# Altium schematic symbol library RF_Switch.SchLib: 30 symbols
Pins are listed as number, name and electrical type; pins without a type are passive.

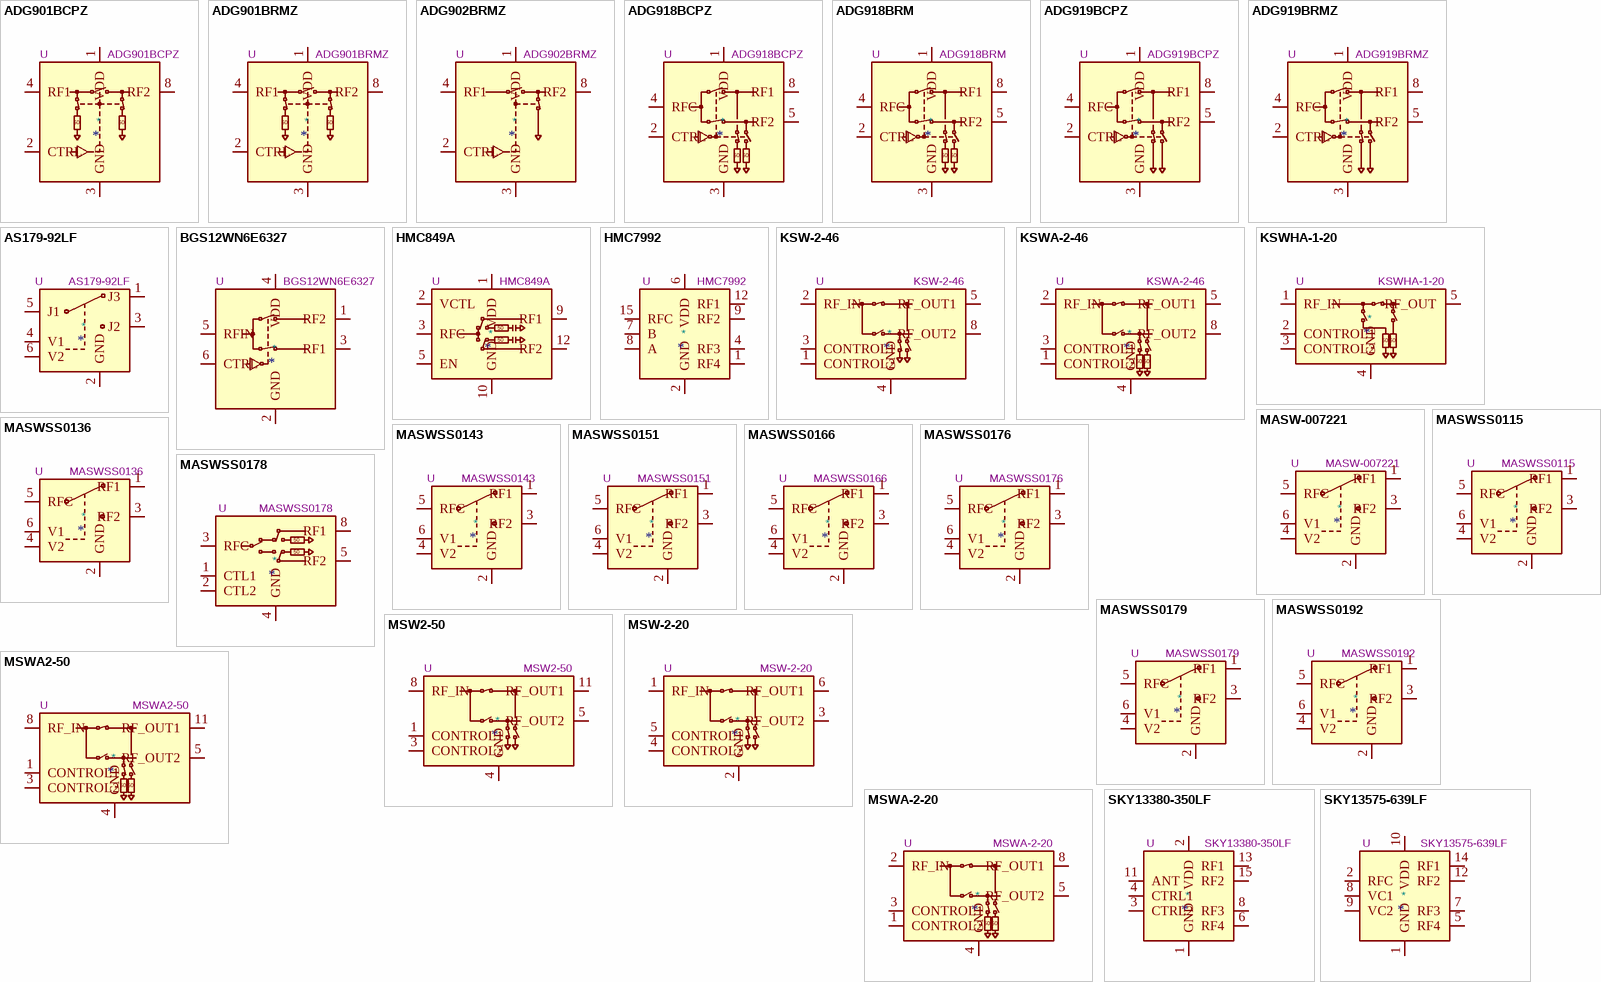
[diagram p0: symbols ADG901BCPZ to SKY13575-639LF]

## ADG901BCPZ
designator *  value ADG901BCPZ  Reference: U
ki_keywords: RF SPST switch CMOS LVTTL; ki_description: SPST DC-4.5GHz absorbative switch, 40dB isolation at 1GHz, LFCSP-8; ki_fp_filters: LFCSP*1EP*3x3mm*P0.5mm*; Footprint: Package_CSP:LFCSP-8-1EP_3x3mm_P0.5mm_EP1.45x1.74mm; Datasheet: https://www.analog.com/media/en/technical-documentation/data-sheets/ADG901_902.pdf
pins: 1 VDD, 2 CTRL, 3 GND, 4 RF1, 5 GND hidden, 6 GND hidden, 7 GND hidden, 8 RF2, 9 GND hidden
text: 50

## ADG901BRMZ
designator *  value ADG901BRMZ  Reference: U
ki_keywords: RF SPST switch CMOS LVTTL; ki_description: SPST DC-4.5GHz absorbative switch, 40dB isolation at 1GHz, MSOP-8; ki_fp_filters: MSOP*3x3mm*P0.65mm*; Footprint: Package_SO:MSOP-8_3x3mm_P0.65mm; Datasheet: https://www.analog.com/media/en/technical-documentation/data-sheets/ADG901_902.pdf
pins: 1 VDD, 2 CTRL, 3 GND, 4 RF1, 5 GND hidden, 6 GND hidden, 7 GND hidden, 8 RF2
text: 50

## ADG902BRMZ
designator *  value ADG902BRMZ  Reference: U
ki_keywords: RF SPST switch CMOS LVTTL; ki_description: SPST DC-4.5GHz reflective switch, 40dB isolation at 1GHz, MSOP-8; ki_fp_filters: MSOP*3x3mm*P0.65mm*; Footprint: Package_SO:MSOP-8_3x3mm_P0.65mm; Datasheet: https://www.analog.com/media/en/technical-documentation/data-sheets/ADG901_902.pdf
pins: 1 VDD, 2 CTRL, 3 GND, 4 RF1, 5 GND hidden, 6 GND hidden, 7 GND hidden, 8 RF2

## ADG918BCPZ
designator *  value ADG918BCPZ  Reference: U
ki_keywords: RF Mux SPDT switch CMOS LVTTL; ki_description: SPDT DC-4GHz absorbative switch, 43dB isolation at 1GHz, LFCSP-8; ki_fp_filters: LFCSP*1EP*3x3mm*P0.5mm*; Footprint: Package_CSP:LFCSP-8-1EP_3x3mm_P0.5mm_EP1.45x1.74mm; Datasheet: https://www.analog.com/media/en/technical-documentation/data-sheets/ADG918_919.pdf
pins: 1 VDD, 2 CTRL, 3 GND, 4 RFC, 5 RF2, 6 GND hidden, 7 GND hidden, 8 RF1, 9 GND hidden
text: 50

## ADG918BRM
designator *  value ADG918BRM  Reference: U
ki_keywords: RF Mux SPDT switch CMOS LVTTL; ki_description: SPDT DC-4GHz absorbative switch, 43dB isolation at 1GHz, MSOP-8; ki_fp_filters: MSOP*3x3mm*P0.65mm*; Footprint: Package_SO:MSOP-8_3x3mm_P0.65mm; Datasheet: https://www.analog.com/media/en/technical-documentation/data-sheets/ADG918_919.pdf
pins: 1 VDD, 2 CTRL, 3 GND, 4 RFC, 5 RF2, 6 GND hidden, 7 GND hidden, 8 RF1
text: 50

## ADG919BCPZ
designator *  value ADG919BCPZ  Reference: U
ki_keywords: RF Mux SPDT switch CMOS LVTTL; ki_description: SPDT DC-4GHz reflective switch, 43dB isolation at 1GHz, LFCSP-8; ki_fp_filters: LFCSP*1EP*3x3mm*P0.5mm*; Footprint: Package_CSP:LFCSP-8-1EP_3x3mm_P0.5mm_EP1.45x1.74mm; Datasheet: https://www.analog.com/media/en/technical-documentation/data-sheets/ADG918_919.pdf
pins: 1 VDD, 2 CTRL, 3 GND, 4 RFC, 5 RF2, 6 GND hidden, 7 GND hidden, 8 RF1, 9 GND hidden

## ADG919BRMZ
designator *  value ADG919BRMZ  Reference: U
ki_keywords: RF Mux SPDT switch CMOS LVTTL; ki_description: SPDT DC-4GHz reflective switch, 43dB isolation at 1GHz, MSOP-8; ki_fp_filters: MSOP*3x3mm*P0.65mm*; Footprint: Package_SO:MSOP-8_3x3mm_P0.65mm; Datasheet: https://www.analog.com/media/en/technical-documentation/data-sheets/ADG918_919.pdf
pins: 1 VDD, 2 CTRL, 3 GND, 4 RFC, 5 RF2, 6 GND hidden, 7 GND hidden, 8 RF1

## AS179-92LF
designator *  value AS179-92LF  Reference: U
ki_keywords: rf spdt switch; ki_description: 20 MHz to 4.0 GHz GaAs SPDT Switch, SC-70; ki_fp_filters: SOT*363*; Footprint: Package_TO_SOT_SMD:SOT-363_SC-70-6; Datasheet: http://www.skyworksinc.com/uploads/documents/AS179_92LF_200176H.pdf
pins: 1 J3, 2 GND, 3 J2, 4 V1, 5 J1, 6 V2

## BGS12WN6E6327
designator *  value BGS12WN6E6327  Reference: U
ki_keywords: RF Mux SPDT switch CMOS; ki_description: SPDT DC-9GHz switch, 45dB isolation at 960MHz, PG-TSNP-6-10; ki_fp_filters: *PG?TSNP*0.7x1.1mm*P0.4mm*; Footprint: Package_LGA:Infineon_PG-TSNP-6-10_0.7x1.1mm_0.7x1.1mm_P0.4mm; Datasheet: https://www.infineon.com/dgdl/Infineon-BGS12WN6-DataSheet-v02_05-EN.pdf?fileId=5546d4626b2d8e69016b89d2b3334727
pins: 1 RF2, 2 GND, 3 RF1, 4 VDD, 5 RFIN, 6 CTRL

## HMC849A
designator *  value HMC849A  Reference: U
ki_keywords: RF SPDT switch; ki_description: High Isolation SPDT Non-Reflective Switch, DC-6GHz, Matched to 50 Ohm, LFCSP-16; ki_fp_filters: LFCSP*1EP*4x4mm*P0.65mm*; Footprint: Package_CSP:LFCSP-16-1EP_4x4mm_P0.65mm_EP2.4x2.4mm; Datasheet: https://www.analog.com/media/en/technical-documentation/data-sheets/hmc849a.pdf
pins: 1 VDD, 2 VCTL, 3 RFC, 4 GND hidden, 5 EN, 6 GND hidden, 7 GND hidden, 8 GND hidden, 9 RF1, 10 GND, 11 GND hidden, 12 RF2, 13 GND hidden, 14 GND hidden, 15 GND hidden, 16 GND hidden, 17 GND hidden
text: 50

## HMC7992
designator *  value HMC7992  Reference: U
ki_keywords: rf switch sp4t absorptive; ki_description: SP4T 100MHz-6GHz absorptive switch, 50 Ohm, LFCSP-16; ki_fp_filters: LFCSP*1EP*3x3mm*P0.5mm*; Footprint: Package_CSP:LFCSP-16-1EP_3x3mm_P0.5mm_EP1.7x1.7mm; Datasheet: https://www.analog.com/media/en/technical-documentation/data-sheets/HMC7992.pdf
pins: 1 RF4, 2 GND, 3 GND hidden, 4 RF3, 5 GND hidden, 6 VDD, 7 B, 8 A, 9 RF2, 10 GND hidden, 11 GND hidden, 12 RF1, 13 GND hidden, 14 GND hidden, 15 RFC, 16 GND hidden, 17 GND hidden

## KSW-2-46
designator *  value KSW-2-46  Reference: U
ki_keywords: RF SPDT switch; ki_description: SPDT DC-4.6GHz reflective switch, 50 Ohm, XX112; ki_fp_filters: Mini?Circuits*XX112* SOP*1EP*4.57x4.57mm*P1.27mm*; Datasheet: https://www.minicircuits.com/pdfs/KSW-2-46+.pdf
pins: 1 CONTROL2, 2 RF_IN, 3 CONTROL1, 4 GND, 5 RF_OUT1, 6 GND hidden, 7 GND hidden, 8 RF_OUT2

## KSWA-2-46
designator *  value KSWA-2-46  Reference: U
ki_keywords: RF SPDT switch; ki_description: SPDT DC-4.6GHz absorbative switch, 50 Ohm, XX112; ki_fp_filters: Mini?Circuits*XX112* SOP*1EP*4.57x4.57mm*P1.27mm*; Datasheet: https://www.minicircuits.com/pdfs/KSWA-2-46+.pdf
pins: 1 CONTROL2, 2 RF_IN, 3 CONTROL1, 4 GND, 5 RF_OUT1, 6 GND hidden, 7 GND hidden, 8 RF_OUT2
text: 50

## KSWHA-1-20
designator *  value KSWHA-1-20  Reference: U
ki_keywords: RF SPST switch; ki_description: SPST DC-2.0GHz absorbative switch, 50 Ohm, XX112; ki_fp_filters: Mini?Circuits*XX112* SOP*1EP*4.57x4.57mm*P1.27mm*; Datasheet: https://www.minicircuits.com/pdfs/KSWHA-1-20+.pdf
pins: 1 RF_IN, 2 CONTROL1, 3 CONTROL2, 4 GND, 5 RF_OUT, 6 GND hidden, 7 GND hidden, 8 GND hidden
text: 50

## MASW-007221
designator *  value MASW-007221  Reference: U
ki_keywords: RF SWITCH SPDT; ki_description: Macom GaAs RF SPDT switch, DC-3GHz, 0.56/12dB loss/isolation, SOT-363; ki_fp_filters: SOT*363*; Footprint: Package_TO_SOT_SMD:SOT-363_SC-70-6; Datasheet: http://cdn.macom.com/datasheets/masw-007221.pdf
pins: 1 RF1, 2 GND, 3 RF2, 4 V2, 5 RFC, 6 V1

## MASWSS0115
designator *  value MASWSS0115  Reference: U
ki_keywords: RF SWITCH SPDT; ki_description: Macom GaAs RF SPDT switch, DC-3GHz, 0.3/22dB loss/isolation, SOT-363; ki_fp_filters: SOT*363*; Footprint: Package_TO_SOT_SMD:SOT-363_SC-70-6; Datasheet: http://cdn.macom.com/datasheets/maswss0115.pdf
pins: 1 RF1, 2 GND, 3 RF2, 4 V2, 5 RFC, 6 V1

## MASWSS0136
designator *  value MASWSS0136  Reference: U
ki_keywords: RF SWITCH SPDT; ki_description: Macom GaAs RF SPDT switch, DC-3GHz, 0.4/27dB loss/isolation, SOT-363; ki_fp_filters: SOT*363*; Footprint: Package_TO_SOT_SMD:SOT-363_SC-70-6; Datasheet: https://cdn.macom.com/datasheets/MASWSS0136.pdf
pins: 1 RF1, 2 GND, 3 RF2, 4 V2, 5 RFC, 6 V1

## MASWSS0143
designator *  value MASWSS0143  Reference: U
ki_keywords: RF SWITCH SPDT; ki_description: Macom GaAs RF SPDT switch, DC-3GHz, 0.4/16dB loss/isolation, IP 58dB@1GHz, SOT-363; ki_fp_filters: SOT*363*; Footprint: Package_TO_SOT_SMD:SOT-363_SC-70-6; Datasheet: https://cdn.macom.com/datasheets/MASWSS0143.pdf
pins: 1 RF1, 2 GND, 3 RF2, 4 V2, 5 RFC, 6 V1

## MASWSS0151
designator *  value MASWSS0151  Reference: U
ki_keywords: RF SWITCH SPDT; ki_description: Macom GaAs RF SPDT switch, DC-3GHz, 0.65/21dB loss/isolation, SOT-363; ki_fp_filters: SOT*363*; Footprint: Package_TO_SOT_SMD:SOT-363_SC-70-6; Datasheet: https://cdn.macom.com/datasheets/MASWSS0151.pdf
pins: 1 RF1, 2 GND, 3 RF2, 4 V2, 5 RFC, 6 V1

## MASWSS0166
designator *  value MASWSS0166  Reference: U
ki_keywords: RF SWITCH SPDT; ki_description: Macom GaAs RF SPDT switch, DC-3GHz, 0.3/12dB loss/isolation, SOT-363; ki_fp_filters: SOT*363*; Footprint: Package_TO_SOT_SMD:SOT-363_SC-70-6; Datasheet: https://cdn.macom.com/datasheets/MASWSS0166.pdf
pins: 1 RF1, 2 GND, 3 RF2, 4 V2, 5 RFC, 6 V1

## MASWSS0176
designator *  value MASWSS0176  Reference: U
ki_keywords: RF SWITCH SPDT; ki_description: Macom GaAs RF SPDT switch, DC-3GHz, 0.35/21dB loss/isolation, SOT-363; ki_fp_filters: SOT*363*; Footprint: Package_TO_SOT_SMD:SOT-363_SC-70-6; Datasheet: https://cdn.macom.com/datasheets/MASWSS0176.pdf
pins: 1 RF1, 2 GND, 3 RF2, 4 V2, 5 RFC, 6 V1

## MASWSS0178
designator *  value MASWSS0178  Reference: U
ki_keywords: RF switch SPDT; ki_description: SPDT High Isolation Terminated Switch, 0.01-3.0 GHz, MSOP-8; ki_fp_filters: MSOP*3x3mm*P0.65mm*; Footprint: Package_SO:MSOP-8-1EP_3x3mm_P0.65mm_EP1.73x1.85mm_ThermalVias; Datasheet: https://cdn.macom.com/datasheets/MASWSS0178.pdf
pins: 1 CTL1, 2 CTL2, 3 RFC, 4 GND, 5 RF2, 6 GND hidden, 7 GND hidden, 8 RF1, 9 GND hidden
text: 50

## MASWSS0179
designator *  value MASWSS0179  Reference: U
ki_keywords: RF SWITCH SPDT; ki_description: Macom GaAs RF SPDT switch, DC-2GHz, 0.6/22dB loss/isolation, SOT-26 (SOT-23-6); ki_fp_filters: SOT?23*; Footprint: Package_TO_SOT_SMD:SOT-23-6; Datasheet: https://cdn.macom.com/datasheets/MASWSS0179.pdf
pins: 1 RF1, 2 GND, 3 RF2, 4 V2, 5 RFC, 6 V1

## MASWSS0192
designator *  value MASWSS0192  Reference: U
ki_keywords: RF SWITCH SPDT; ki_description: Macom GaAs RF SPDT switch, DC-3GHz, 0.33/13.5dB loss/isolation, SOT-363; ki_fp_filters: SOT*363*; Footprint: Package_TO_SOT_SMD:SOT-363_SC-70-6; Datasheet: https://cdn.macom.com/datasheets/MASWSS0192.pdf
pins: 1 RF1, 2 GND, 3 RF2, 4 V2, 5 RFC, 6 V1

## MSW2-50
designator *  value MSW2-50  Reference: U
ki_keywords: RF SPDT switch; ki_description: SPDT DC-5.0GHz reflective switch, 50 Ohm, QFN-12; ki_fp_filters: QFN*1EP*3x3mm*P0.51mm*; Footprint: Package_DFN_QFN:QFN-12-1EP_3x3mm_P0.51mm_EP1.45x1.45mm; Datasheet: https://www.minicircuits.com/pdfs/MSW2-50+.pdf
pins: 1 CONTROL1, 2 NC hidden, 3 CONTROL2, 4 GND, 5 RF_OUT2, 6 GND hidden, 7 GND hidden, 8 RF_IN, 9 GND hidden, 10 GND hidden, 11 RF_OUT1, 12 GND hidden, 13 GND hidden

## MSW-2-20
designator *  value MSW-2-20  Reference: U
ki_keywords: RF SPDT switch; ki_description: SPDT DC-2.0GHz reflective switch, 50 Ohm, SOP-8; ki_fp_filters: SOP*3.76x4.96mm*P1.27mm*; Footprint: Package_SO:SOP-8_3.76x4.96mm_P1.27mm; Datasheet: https://www.minicircuits.com/pdfs/MSW-2-20+.pdf
pins: 1 RF_IN, 2 GND, 3 RF_OUT2, 4 CONTROL2, 5 CONTROL1, 6 RF_OUT1, 7 GND hidden, 8 GND hidden

## MSWA2-50
designator *  value MSWA2-50  Reference: U
ki_keywords: RF SPDT switch; ki_description: SPDT DC-5.0GHz absorbative switch, 50 Ohm, QFN-12; ki_fp_filters: QFN*1EP*3x3mm*P0.51mm*; Footprint: Package_DFN_QFN:QFN-12-1EP_3x3mm_P0.51mm_EP1.45x1.45mm; Datasheet: https://www.minicircuits.com/pdfs/MSWA2-50+.pdf
pins: 1 CONTROL1, 2 NC hidden, 3 CONTROL2, 4 GND, 5 RF_OUT2, 6 GND hidden, 7 GND hidden, 8 RF_IN, 9 GND hidden, 10 GND hidden, 11 RF_OUT1, 12 GND hidden, 13 GND hidden
text: 50

## MSWA-2-20
designator *  value MSWA-2-20  Reference: U
ki_keywords: RF SPDT switch; ki_description: SPDT DC-2.0GHz absorbative switch, 50 Ohm, SOP-8; ki_fp_filters: SOP*3.76x4.96mm*P1.27mm*; Footprint: Package_SO:SOP-8_3.76x4.96mm_P1.27mm; Datasheet: https://www.minicircuits.com/pdfs/MSWA-2-20+.pdf
pins: 1 CONTROL2, 2 RF_IN, 3 CONTROL1, 4 GND, 5 RF_OUT2, 6 GND hidden, 7 GND hidden, 8 RF_OUT1
text: 50

## SKY13380-350LF
designator *  value SKY13380-350LF  Reference: U
ki_keywords: rf switch sp4t; ki_description: SP4T 20MHz-3GHz high power switch, 50 Ohm, QFN-16; ki_fp_filters: *QFN*1EP*3x3mm*; Footprint: Package_DFN_QFN:QFN-16-1EP_3x3mm_P0.5mm_EP1.7x1.7mm; Datasheet: https://www.skyworksinc.com/-/media/SkyWorks/Documents/Products/601-700/201486C.pdf
pins: 1 GND, 2 VDD, 3 CTRL2, 4 CTRL1, 5 GND hidden, 6 RF4, 7 GND hidden, 8 RF3, 9 GND hidden, 10 GND hidden, 11 ANT, 12 GND hidden, 13 RF1, 14 GND hidden, 15 RF2, 16 NC hidden

## SKY13575-639LF
designator *  value SKY13575-639LF  Reference: U
ki_keywords: rf switch sp4t absorptive; ki_description: SP4T 100MHz-6GHz absorptive switch, 50 Ohm, QFN-14; ki_fp_filters: *SKY13575?639LF*; Footprint: RF:Skyworks_SKY13575_639LF; Datasheet: https://www.skyworksinc.com/-/media/SkyWorks/Documents/Products/2201-2300/SKY13575_639LF_203270D.pdf
pins: 1 GND, 2 RFC, 3 GND hidden, 4 GND hidden, 5 RF4, 6 GND hidden, 7 RF3, 8 VC1, 9 VC2, 10 VDD, 11 GND hidden, 12 RF2, 13 GND hidden, 14 RF1, 15 GND hidden